# EAGLE library part BCR421U (library BCR421U)
BCR421U LED Driver, 4.5V Max Enable Voltage SOP95P250X110-6N-1
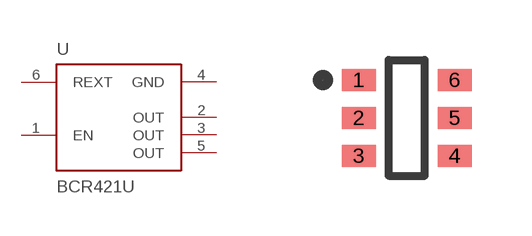
[diagram p0: symbol with the pads of SOP95P250X110-6N-1; footprint SOP95P250X110-6N-1]

Designator prefix U

## BCR421U  [SOP95P250X110-6N-1]
1  EN  in
2  OUT  out
3  OUT  out
4  GND  pwr
5  OUT  out
6  REXT  pas

## Footprint SOP95P250X110-6N-1 (pad centres in mm)
Original name SOP95P250X110-6N-1
smd 0.85 x 0.55: 1 -1.2,0.95; 2 -1.2,0; 3 -1.2,-0.95; 4 1.2,-0.95; 5 1.2,0; 6 1.2,0.95